# EAGLE library part TB6560 (library Hoektronics)
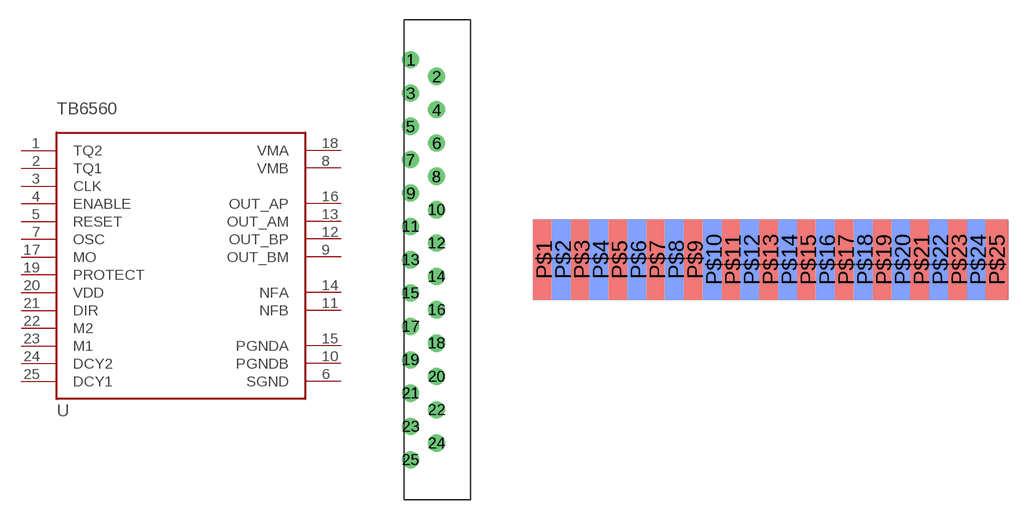
[diagram p1: symbol with the pads of HZIP25V; footprints HZIP25V, HZIP25H]

Designator prefix U

## TB6560AHQ  [HZIP25V]
1  TQ2
2  TQ1
3  CLK
4  ENABLE
5  RESET
6  SGND
7  OSC
8  VMB
9  OUT_BM
10  PGNDB
11  NFB
12  OUT_BP
13  OUT_AM
14  NFA
15  PGNDA
16  OUT_AP
17  MO
18  VMA
19  PROTECT
20  VDD
21  DIR
22  M2
23  M1
24  DCY2
25  DCY1

## TB6560AHQ-H  [HZIP25H]
P$1  TQ2
P$2  TQ1
P$3  CLK
P$4  ENABLE
P$5  RESET
P$6  SGND
P$7  OSC
P$8  VMB
P$9  OUT_BM
P$10  PGNDB
P$11  NFB
P$12  OUT_BP
P$13  OUT_AM
P$14  NFA
P$15  PGNDA
P$16  OUT_AP
P$17  MO
P$18  VMA
P$19  PROTECT
P$20  VDD
P$21  DIR
P$22  M2
P$23  M1
P$24  DCY2
P$25  DCY1

## Footprint HZIP25V (pad centres in mm)
drill 0.8: 1 0,15.24; 2 1.981,13.97; 3 0,12.7; 4 1.981,11.43; 5 0,10.16; 6 1.981,8.89; 7 0,7.62; 8 1.981,6.35; 9 0,5.08; 10 1.981,3.81; 11 0,2.54; 12 1.981,1.27; 13 0,0; 14 1.981,-1.27; 15 0,-2.54; 16 1.981,-3.81; 17 0,-5.08; 18 1.981,-6.35; 19 0,-7.62; 20 1.981,-8.89; 21 0,-10.16; 22 1.981,-11.43; 23 0,-12.7; 24 1.981,-13.97; 25 0,-15.24

## Footprint HZIP25H (pad centres in mm)
smd 1.5 x 5.4: P$1 -15.24,-11.25; P$3 -12.7,-11.25; P$5 -10.16,-11.25; P$7 -7.62,-11.25; P$9 -5.08,-11.25; P$11 -2.54,-11.25; P$13 0,-11.25; P$15 2.54,-11.25; P$17 5.08,-11.25; P$19 7.62,-11.25; P$21 10.16,-11.25; P$23 12.7,-11.25; P$25 15.24,-11.25
smd 1.5 x 5.4 bottom: P$2 -13.97,-11.25; P$4 -11.43,-11.25; P$6 -8.89,-11.25; P$8 -6.35,-11.25; P$10 -3.81,-11.25; P$12 -1.27,-11.25; P$14 1.27,-11.25; P$16 3.81,-11.25; P$18 6.35,-11.25; P$20 8.89,-11.25; P$22 11.43,-11.25; P$24 13.97,-11.25